# Altium footprint library R_AXIAL_5.069_0.9.PcbLib: 1 footprints
Each footprint in its own frame and in the unit in brackets; x right, y up, seen from the top. Pads: shape width x height; smd on the part's side, far side on the other; paste and mask are expansions set on the pad; w line width, h text height; cw(c..) or ccw(c..) is an arc to the next point about the centre after c.
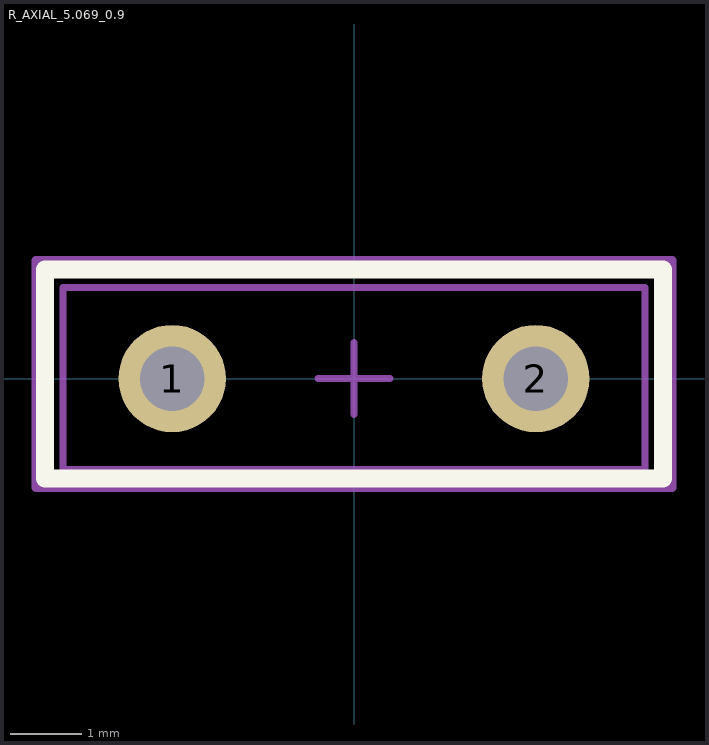
[diagram p0: the footprint, top view; thin cyan lines are the x and y axes]

## R_AXIAL_5.069_0.9 [mm]
pads (2):
  round 1.5 hole 0.9: 1(-2.54,0) 2(2.54,0)
Top Overlay:
  lines w0.254: -4.318,-1.397 4.318,-1.397 4.318,1.524 -4.318,1.524 -4.318,-1.397
Mechanical 13:
  lines w0.1: -4.064,-1.27 4.064,-1.27 4.064,1.27 -4.064,1.27 -4.064,-1.27
Mechanical 15:
  lines w0.1: -0.5,0 0.5,0 ; 0,-0.5 0,0.5
  lines w0.127: -4.445,-1.524 4.445,-1.524 4.445,1.651 -4.445,1.651 -4.445,-1.524
Mechanical 17:
  text "'.Designator'" at -3.556,-0.381 h0.64
Mechanical 19:
  text "'.Comment'" at -2.921,-0.254 h0.64
3D body "SW3DPS-0_125W METAL FILM RESISTOR-DEFAULT.STEP": height 9.85, standoff -5.9, extent -3.429,-0.911 2.721,0.889